# Altium footprint library EEEFKV101XAV.PcbLib: 1 footprints
Each footprint in its own frame and in the unit in brackets; x right, y up, seen from the top. Pads: shape width x height; smd on the part's side, far side on the other; paste and mask are expansions set on the pad; w line width, h text height; cw(c..) or ccw(c..) is an arc to the next point about the centre after c.
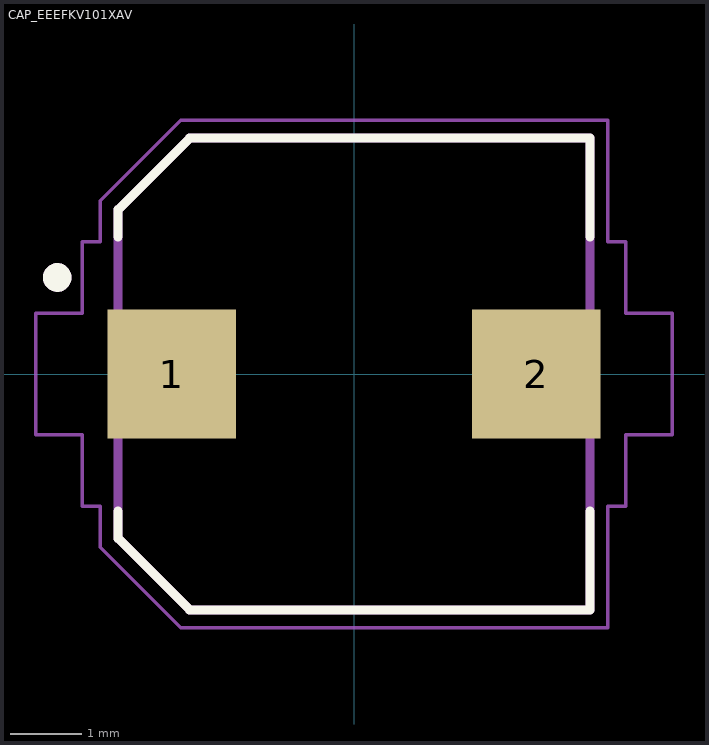
[diagram p0: the footprint, top view; thin cyan lines are the x and y axes]

## CAP_EEEFKV101XAV [mm]
pads (2):
  rect 1.8x1.8 smd paste-2 mask+0: 1(-2.55,0) 2(2.55,0)
Top Overlay:
  circle w0.2: c-4.15,1.35 r0.1
  lines w0.127: -3.3,-1.92 -3.3,-2.3 -2.3,-3.3 3.3,-3.3 3.3,-1.92 ; -3.3,1.92 -3.3,2.3 -2.3,3.3 3.3,3.3 3.3,1.92
Mechanical 13:
  circle w0.2: c-4.15,1.35 r0.1
  lines w0.127: -3.3,-2.3 -2.3,-3.3 3.3,-3.3 3.3,3.3 -2.3,3.3 -3.3,2.3 -3.3,-2.3
Mechanical 15:
  lines w0.05: -4.45,-0.85 -4.45,0.85 -3.8,0.85 -3.8,1.85 -3.55,1.85 -3.55,2.425 -2.425,3.55 3.55,3.55 3.55,1.85 3.8,1.85 3.8,0.85 4.45,0.85 4.45,-0.85 3.8,-0.85 3.8,-1.85 3.55,-1.85 3.55,-3.55 -2.425,-3.55 -3.55,-2.425 -3.55,-1.85 -3.8,-1.85 -3.8,-0.85 -4.45,-0.85
3D body "step_temp.STEP": height 8, standoff 0, extent -3.65,-3.3 3.65,3.3